# EAGLE library part XFMR_B0570-B (library wheat)
XFMR, COILCRAFT B0570-B
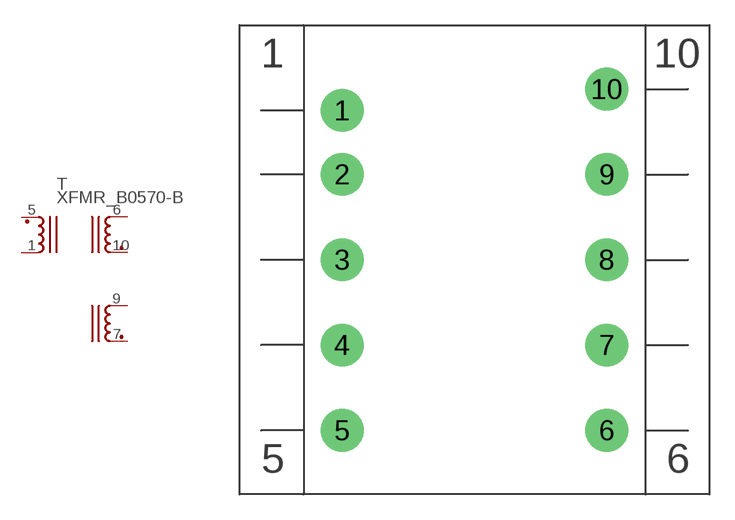
[diagram p71: symbol with the pads of Y8848-A; footprint Y8848-A]

Designator prefix T

## XFMR_B0570-B  [Y8848-A]
1  P2  pas
5  P1  pas
6  S12  pas
7  S21  pas
9  S22  pas
10  S11  pas

## Footprint Y8848-A (pad centres in mm)
FLYBACK TRANSFORMER COILCRAFT Y8848-A
drill 1.27 pad 2.54: 1 -7.874,8.89; 2 -7.874,5.08; 3 -7.874,0; 4 -7.874,-5.08; 5 -7.874,-10.16; 6 7.874,-10.16; 7 7.874,-5.08; 8 7.874,0; 9 7.874,5.08; 10 7.874,10.16